# Altium footprint library MyLib.PcbLib: 2 footprints
Each footprint in its own frame and in the unit in brackets; x right, y up, seen from the top. Pads: shape width x height; smd on the part's side, far side on the other; paste and mask are expansions set on the pad; w line width, h text height; cw(c..) or ccw(c..) is an arc to the next point about the centre after c.
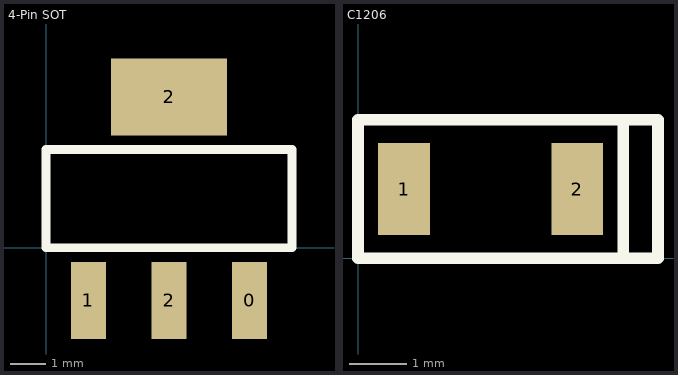
[diagram p0: the footprints below, top view; thin cyan lines are the x and y axes]

## 4-Pin SOT [mm] "lm1117"
height 1.7
pads (4):
  rect 1x2.2 smd: 0(5.8,-1.5) 1(1.2,-1.5) 2(3.5,-1.5)
  rect 3.3x2.2 smd: 2(3.5,4.3)
Top Overlay:
  lines w0.254: 0,0 7,0 7,2.8 0,2.8 0,0

## C1206 [mm] "Tantalum Cap"
pads (2):
  rect 0.9x1.6 smd: 1(0.8,1.2) 2(3.8,1.2)
Top Overlay:
  lines w0.2: 4.6,0 0,0 0,2.4 4.6,2.4 ; 4.6,0 4.6,2.4 ; 4.6,0 5.2,0 5.2,2.4 4.6,2.4